# Altium footprint library PcbLib.PcbLib: 34 footprints (part 1 of 3)
Each footprint in its own frame and in the unit in brackets; x right, y up, seen from the top. Pads: shape width x height; smd on the part's side, far side on the other; paste and mask are expansions set on the pad; w line width, h text height; cw(c..) or ccw(c..) is an arc to the next point about the centre after c.
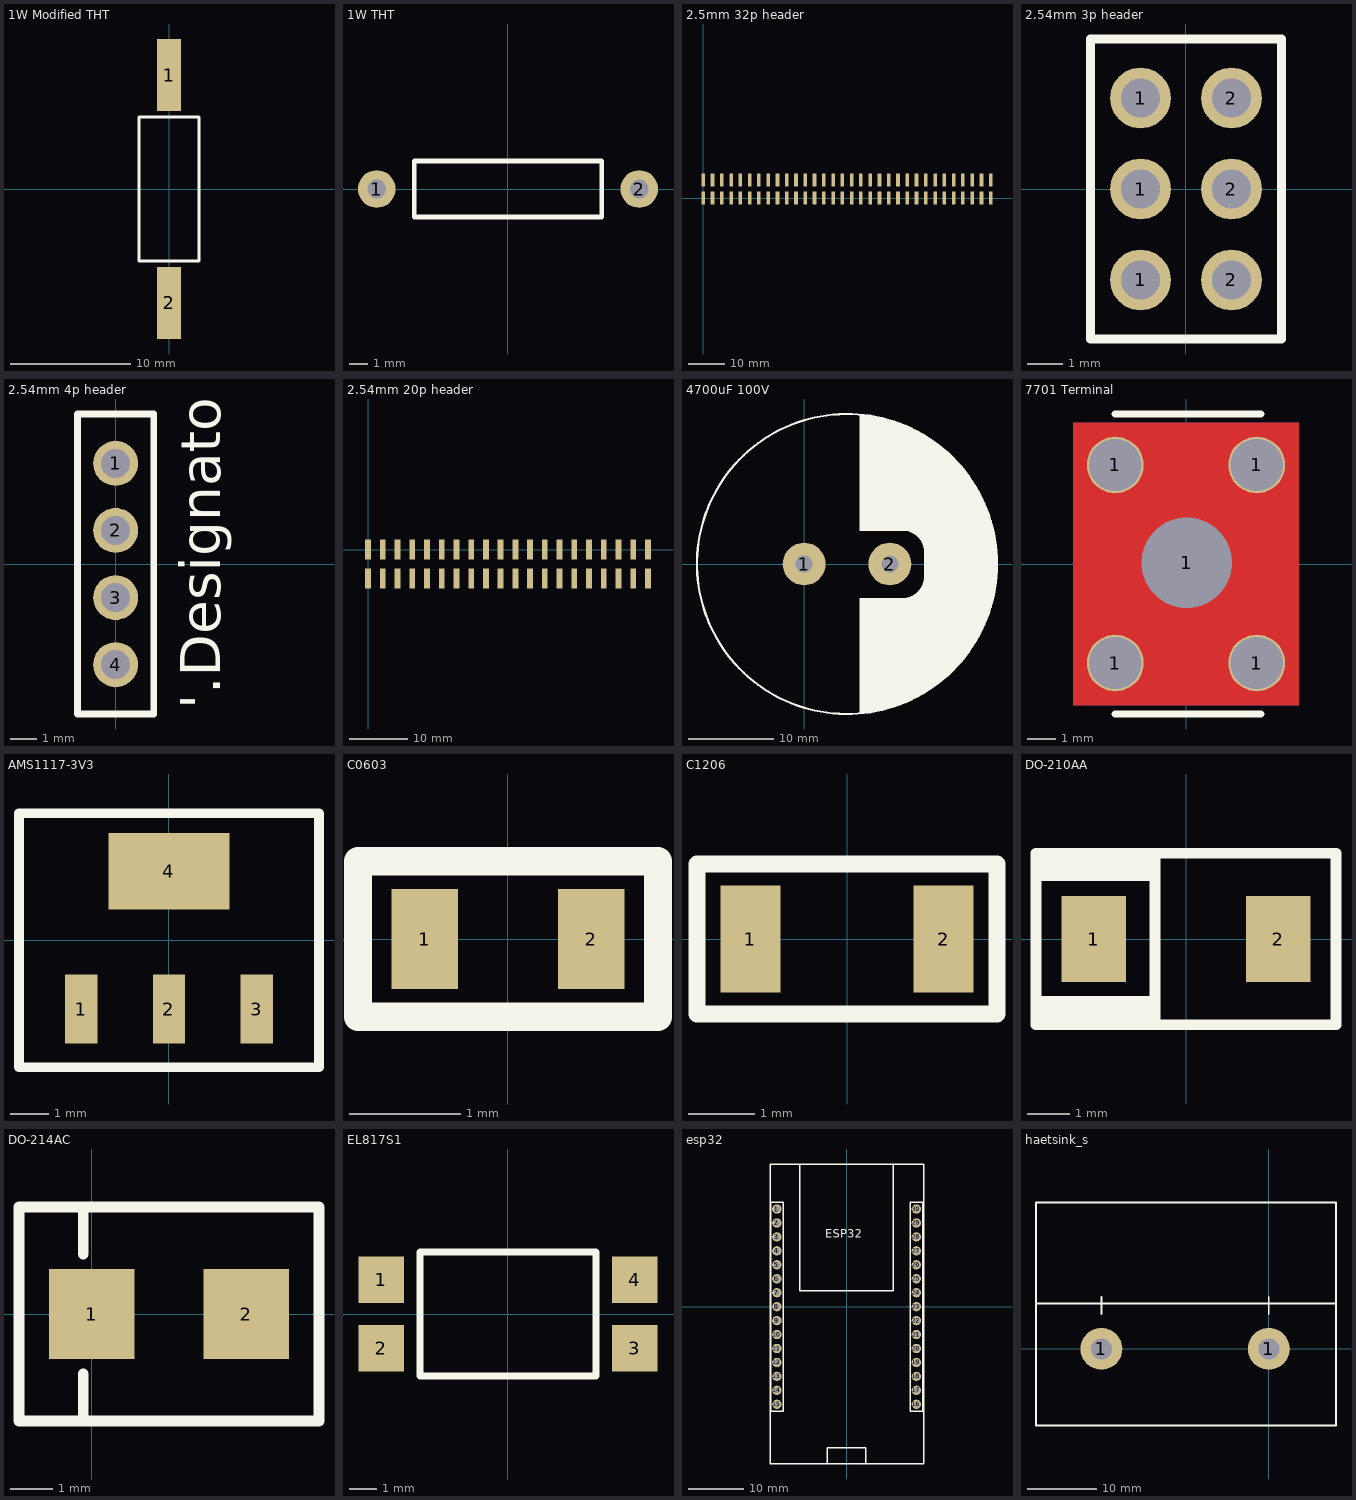
[diagram p0: the footprints below, top view; thin cyan lines are the x and y axes]

## 1W Modified THT [mm]
pads (2):
  rect 2x6 smd: 1(0,9.5) 2(0,-9.5)
Top Overlay:
  lines w0.254: -2.5,-6 2.5,-6 2.5,6 -2.5,6 -2.5,-6

## 1W THT [mm]
pads (2):
  round 2 hole 1: 1(-7,0) 2(7,0)
Top Overlay:
  lines w0.254: -5,-1.5 5,-1.5 5,1.5 -5,1.5 -5,-1.5

## 2.5mm 32p header [mm]
pads (64):
  rect 1x3.45 smd: 1(0,0) 2(2.54,0) 3(5.08,0) 4(7.62,0) 5(10.16,0) 6(12.7,0) 7(15.24,0) 8(17.78,0) 9(20.32,0) 10(22.86,0) 11(25.4,0) 12(27.94,0) 13(30.48,0) 14(33.02,0) 15(35.56,0) 16(38.1,0) 17(40.64,0) 18(43.18,0) 19(45.72,0) 20(48.26,0) 21(50.8,0) 22(53.34,0) 23(55.88,0) 24(58.42,0) 25(60.96,0) 26(63.5,0) 27(66.04,0) 28(68.58,0) 29(71.12,0) 30(73.66,0) 31(76.2,0) 32(78.74,0) 33(78.74,4.95) 34(76.2,4.95) 35(73.66,4.95) 36(71.12,4.95) 37(68.58,4.95) 38(66.04,4.95) 39(63.5,4.95) 40(60.96,4.95) 41(58.42,4.95) 42(55.88,4.95) 43(53.34,4.95) 44(50.8,4.95) 45(48.26,4.95) 46(45.72,4.95) 47(43.18,4.95) 48(40.64,4.95) 49(38.1,4.95) 50(35.56,4.95) 51(33.02,4.95) 52(30.48,4.95) 53(27.94,4.95) 54(25.4,4.95) 55(22.86,4.95) 56(20.32,4.95) 57(17.78,4.95) 58(15.24,4.95) 59(12.7,4.95) 60(10.16,4.95) 61(7.62,4.95) 62(5.08,4.95) 63(2.54,4.95) 64(0,4.95)

## 2.54mm 3p header [mm]
pads (6):
  round 1.7 hole 1.1: 1(-1.27,-2.54) 1(-1.27,0) 1(-1.27,2.54) 2(1.27,-2.54) 2(1.27,0) 2(1.27,2.54)
Top Overlay:
  lines w0.254: -2.662,-4.187 2.663,-4.187 2.663,4.187 -2.662,4.187 -2.662,-4.187

## 2.54mm 4p header [mm]
pads (4):
  round 1.7 hole 1.1: 1(0,3.81) 2(0,1.27) 3(0,-1.27) 4(0,-3.81)
Top Overlay:
  lines w0.254: -1.446,-5.681 1.446,-5.681 1.446,5.681 -1.446,5.681 -1.446,-5.681
  text "'.Designator'" at 3.963,-5.496 h1.52

## 2.54mm 20p header [mm]
pads (42):
  rect 1x3.45 smd: 1(0,-4.95) 2(2.54,-4.95) 3(5.08,-4.95) 4(7.62,-4.95) 4(7.62,-4.95) 5(10.16,-4.95) 6(12.7,-4.95) 7(15.24,-4.95) 8(17.78,-4.95) 9(20.32,-4.95) 10(22.86,-4.95) 11(25.4,-4.95) 12(27.94,-4.95) 13(30.48,-4.95) 14(33.02,-4.95) 15(35.56,-4.95) 16(38.1,-4.95) 17(40.64,-4.95) 18(43.18,-4.95) 19(45.72,-4.95) 20(48.26,-4.95) 21(48.26,0) 22(45.72,0) 23(43.18,0) 24(40.64,0) 25(38.1,0) 26(35.56,0) 27(33.02,0) 28(30.48,0) 29(27.94,0) 30(25.4,0) 31(22.86,0) 32(20.32,0) 33(17.78,0) 34(15.24,0) 35(12.7,0) 36(10.16,0) 37(7.62,0) 37(7.62,0) 38(5.08,0) 39(2.54,0) 40(0,0)

## 4700uF 100V [mm]
pads (2):
  round 5 hole 2: 1(0,0) 2(10,0)
Top Overlay:
  circle w0.254: c5,0 r17.5
  region: 6.5,17.46 6.5,3.9 11.5,3.9 11.745,3.888 12.226,3.792 12.679,3.605 13.086,3.333 13.433,2.986 13.705,2.578 13.892,2.126 13.988,1.645 14,1.4 14,-1.46 13.988,-1.709 13.891,-2.197 13.7,-2.657 13.423,-3.071 13.071,-3.423 12.657,-3.7 12.197,-3.891 11.709,-3.988 11.46,-4 6.5,-4 6.5,-17.4 6.9,-17.4 9.9,-16.8 13.6,-15.3 16.8,-13 19.1,-10.4 21.1,-6.9 22,-4.1 22.5,-0.5 22.3,2.5 21.6,5.6 20.5,8.3 18.5,11.1 15.6,14 12.4,15.9 8.2,17.2 6.6,17.4 10.8,16.6 10.8,16.56

## 7701 Terminal [mm]
pads (5):
  round 2 hole 1.85: 1(-2.5,-3.5) 1(2.5,-3.5) 1(2.5,3.5)
  round 2 hole 1.85 paste+0 mask+0.102: 1(-2.5,3.5)
  round 1.524 hole 3.2: 1(0.025,0.05)
Top Layer:
  rectangle: -4,-5 4,5
Bottom Layer:
  rectangle: -4,-5 4,5
Top Overlay:
  lines w0.254: -2.5,-5.3 2.65,-5.3 ; -2.5,5.3 2.65,5.3
Top Solder:
  rectangle: -4,-5 4,5
Bottom Solder:
  rectangle: -4,-5 4,5

## AMS1117-3V3 [mm]
pads (4):
  rect 0.84x1.8 smd: 1(-2.29,-1.8) 2(0,-1.8) 3(2.29,-1.8)
  rect 3.15x2 smd: 4(0,1.8)
Top Overlay:
  lines w0.254: -3.912,-3.313 3.913,-3.313 3.913,3.313 -3.912,3.313 -3.912,-3.313

## C0603 [mm] "0603 Capacitor Package"
pads (2):
  rect 0.6x0.9 smd: 1(-0.75,0) 2(0.75,0)
Top Overlay:
  lines w0.254: -1.35,-0.7 1.35,-0.7 1.35,0.7 -1.35,0.7 -1.35,-0.7

## C1206 [mm] "1206 Package"
pads (2):
  rect 0.9x1.6 smd: 1(-1.45,0) 2(1.45,0)
Top Overlay:
  lines w0.254: -2.25,-1.125 2.25,-1.125 2.25,1.125 -2.25,1.125 -2.25,-1.125

## DO-210AA [mm] "DO-210AA Package"
pads (2):
  rect 1.5x2 smd: 1(-2.15,0) 2(2.15,0)
Top Overlay:
  rectangle: -3.4,1.35 -0.75,1.95
  rectangle: -3.425,-1.925 -0.775,-1.325
  lines w0.254: -0.725,-1.95 -0.725,1.975 ; -3.5,-2 3.5,-2 3.5,2 -3.5,2 -3.5,-2
Mechanical 1:
  lines w0.254: -0.725,-1.95 ccw(c-0.675,-1.95) -0.675,-2

## DO-214AC [mm] "SMA"
pads (2):
  rect 2x2.1 smd: 1(0,0) 2(3.6,0)
Top Overlay:
  lines w0.254: -0.2,-2.4 -0.2,-1.4 ; -0.2,1.4 -0.2,2.5 ; -1.7,-2.5 5.3,-2.5 5.3,2.5 -1.7,2.5 -1.7,-2.5

## EL817S1 [mm] "Optocoupler"
pads (4):
  rect 1.68x1.71 smd: 1(-4.69,1.27) 2(-4.69,-1.27) 3(4.69,-1.27) 4(4.69,1.27)
Top Overlay:
  lines w0.254: -3.25,-2.29 3.25,-2.29 3.25,2.29 -3.25,2.29 -3.25,-2.29

## esp32 [mm]
pads (30):
  round 1.7 hole 1.1: 1(-12.7,17.78) 2(-12.7,15.24) 3(-12.7,12.7) 4(-12.7,10.16) 5(-12.7,7.62) 6(-12.7,5.08) 7(-12.7,2.54) 8(-12.7,0) 9(-12.7,-2.54) 10(-12.7,-5.08) 11(-12.7,-7.62) 12(-12.7,-10.16) 13(-12.7,-12.7) 14(-12.7,-15.24) 15(-12.7,-17.78) 16(12.7,-17.78) 17(12.7,-15.24) 18(12.7,-12.7) 19(12.7,-10.16) 20(12.7,-7.62) 21(12.7,-5.08) 22(12.7,-2.54) 23(12.7,0) 24(12.7,2.54) 25(12.7,5.08) 26(12.7,7.62) 27(12.7,10.16) 28(12.7,12.7) 29(12.7,15.24) 30(12.7,17.78)
Top Overlay:
  lines w0.254: -13.925,-28.625 14.075,-28.625 14.075,25.975 -13.925,25.975 -13.925,-28.625 ; -13.85,-19.037 -11.55,-19.037 -11.55,19.038 -13.85,19.038 -13.85,-19.037 ; -8.5,2.925 8.5,2.925 8.5,25.925 -8.5,25.925 -8.5,2.925 ; -3.5,-28.65 3.5,-28.65 3.5,-25.65 -3.5,-25.65 -3.5,-28.65 ; 11.55,-19.037 13.85,-19.037 13.85,19.038 11.55,19.038 11.55,-19.037
  text "ESP32" at -3.921,12.554 h1.52

## haetsink_s [mm]
pads (2):
  round 6 hole 3: 1(-24,0) 1(0,0)
Top Overlay:
  lines w0.254: -33.35,6.5 9.6,6.5 ; -24,5 -24,7.475 ; 0,5 0,7.475 ; -33.375,-11 9.625,-11 9.625,21 -33.375,21 -33.375,-11